# EAGLE library part RASPBERRY-PI (library BOBs)
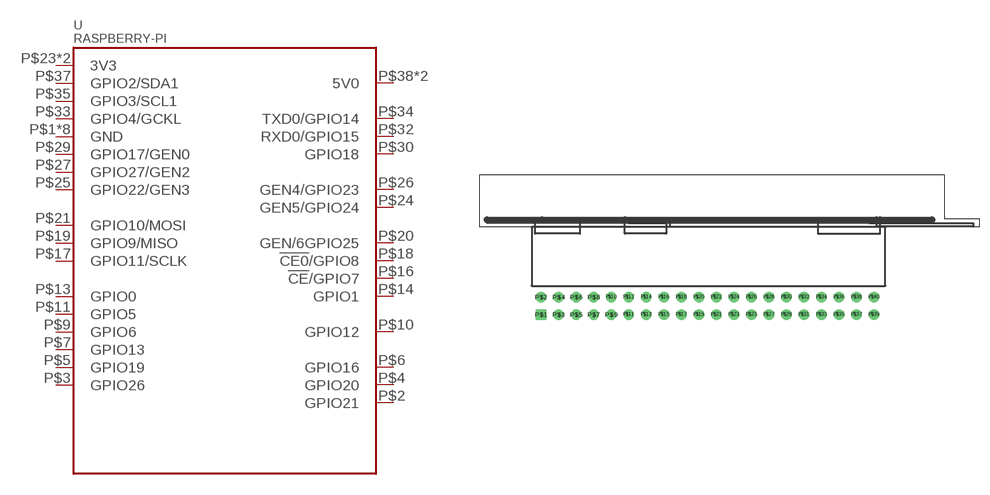
[diagram p11: symbol with the pads of RPI-ZERO-EDGE-RIGHT-ANGLE; footprint RPI-ZERO-EDGE-RIGHT-ANGLE]

Designator prefix -

## RASPBERRY-PI  [RPI-ZERO-EDGE-RIGHT-ANGLE]
P$1  GND  sup
P$2  GPIO21
P$3  GPIO26
P$4  GPIO20
P$5  GPIO19
P$6  GPIO16
P$7  GPIO13
P$8  GND  sup
P$9  GPIO6
P$10  GPIO12
P$11  GPIO5
P$12  GND  sup
P$13  GPIO0
P$14  GPIO1
P$15  GND  sup
P$16  !CE!/GPIO7
P$17  GPIO11/SCLK
P$18  !CE0!/GPIO8
P$19  GPIO9/MISO
P$20  GEN/6GPIO25
P$21  GPIO10/MOSI
P$22  GND  sup
P$23  3V3  sup
P$24  GEN5/GPIO24
P$25  GPIO22/GEN3
P$26  GEN4/GPIO23
P$27  GPIO27/GEN2
P$28  GND  sup
P$29  GPIO17/GEN0
P$30  GPIO18
P$31  GND  sup
P$32  RXD0/GPIO15
P$33  GPIO4/GCKL
P$34  TXD0/GPIO14
P$35  GPIO3/SCL1
P$36  GND  sup
P$37  GPIO2/SDA1
P$38  5V0  sup
P$39  3V3  sup
P$40  5V0  sup

## Footprint RPI-ZERO-EDGE-RIGHT-ANGLE (pad centres in mm)
drill 1 square: P$1 -24.13,-1.27
drill 1: P$2 -24.13,1.27; P$3 -21.59,-1.27; P$4 -21.59,1.27; P$5 -19.05,-1.27; P$6 -19.05,1.27; P$7 -16.51,-1.27; P$8 -16.51,1.27; P$9 -13.97,-1.27; P$10 -13.97,1.27; P$11 -11.43,-1.27; P$12 -11.43,1.27; P$13 -8.89,-1.27; P$14 -8.89,1.27; P$15 -6.35,-1.27; P$16 -6.35,1.27; P$17 -3.81,-1.27; P$18 -3.81,1.27; P$19 -1.27,-1.27; P$20 -1.27,1.27; P$21 1.27,-1.27; P$22 1.27,1.27; P$23 3.81,-1.27; P$24 3.81,1.27; P$25 6.35,-1.27; P$26 6.35,1.27; P$27 8.89,-1.27; P$28 8.89,1.27; P$29 11.43,-1.27; P$30 11.43,1.27; P$31 13.97,-1.27; P$32 13.97,1.27; P$33 16.51,-1.27; P$34 16.51,1.27; P$35 19.05,-1.27; P$36 19.05,1.27; P$37 21.59,-1.27; P$38 21.59,1.27; P$39 24.13,-1.27; P$40 24.13,1.27